# EAGLE library part PI6ULS5V9617A (library signpost)
I2C Redriver (isolation + level shift)
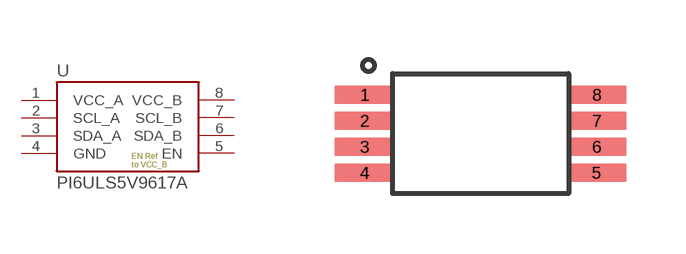
[diagram p7: symbol with the pads of TSSOP-8; footprint TSSOP-8]

Designator prefix U

## PI6ULS5V9617A  [TSSOP-8]
1  VCC_A
2  SCL_A
3  SDA_A
4  GND
5  EN
6  SDA_B
7  SCL_B
8  VCC_B

## Footprint TSSOP-8 (pad centres in mm)
smd 1.5 x 0.45: 1 -2.9,0.975; 2 -2.9,0.325; 3 -2.9,-0.325; 4 -2.9,-0.975; 5 2.9,-0.975; 6 2.9,-0.325; 7 2.9,0.325; 8 2.9,0.975